# Altium footprint library MQ-2.PcbLib: 1 footprints
Each footprint in its own frame and in the unit in brackets; x right, y up, seen from the top. Pads: shape width x height; smd on the part's side, far side on the other; paste and mask are expansions set on the pad; w line width, h text height; cw(c..) or ccw(c..) is an arc to the next point about the centre after c.
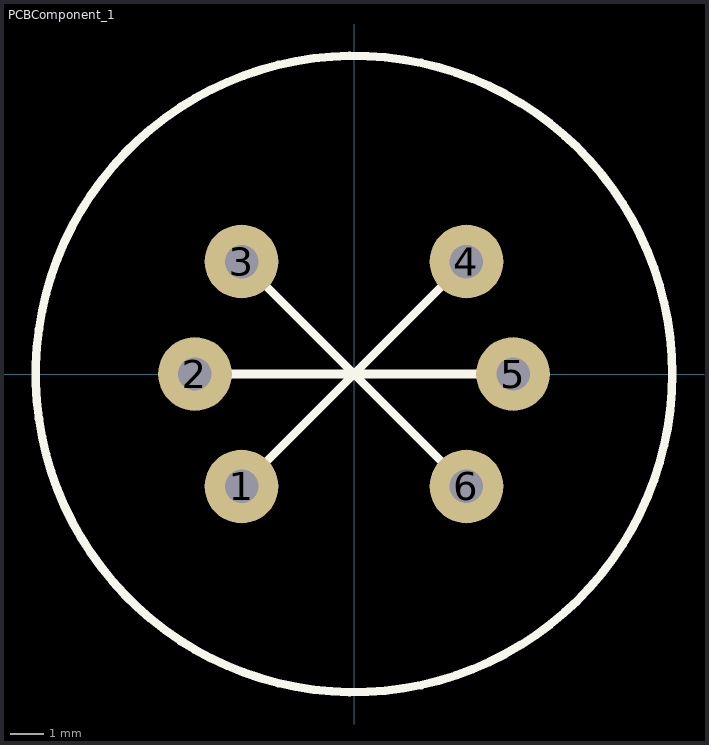
[diagram p0: the footprint, top view; thin cyan lines are the x and y axes]

## PCBComponent_1 [mm]
pads (6):
  round 2.2 hole 1: 1(-3.359,-3.359) 2(-4.75,0) 3(-3.359,3.359) 4(3.359,3.359) 5(4.75,0) 6(3.359,-3.359)
Top Overlay:
  circle w0.254: c0,0 r9.5
  lines w0.254: -4.75,0 0,0 ; -3.359,-3.359 0,0 ; -3.359,3.359 0,0 ; 3.359,-3.359 0,0 ; 3.359,3.359 0,0 ; 4.75,0 0,0